# EAGLE library part NPI-STM32MP157C (library SEEED_SoM-STM32MP157C)
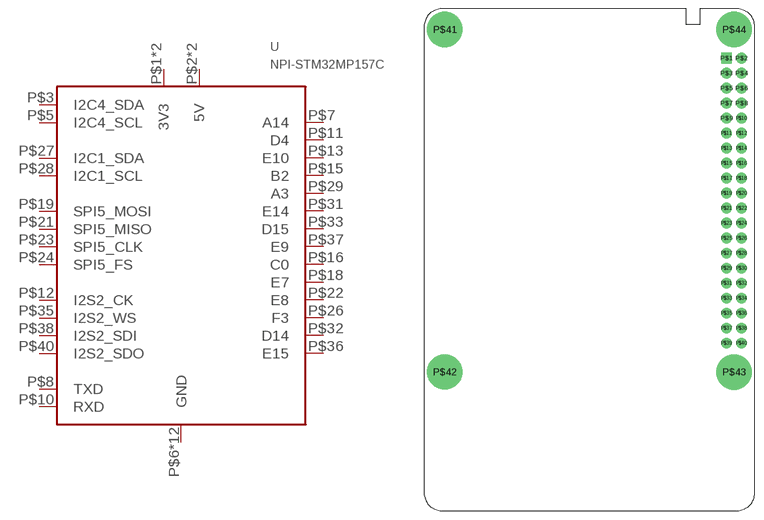
[diagram p1: symbol with the pads of NPI-STM32MP157C; footprint NPI-STM32MP157C]

Designator prefix -

## NPI-STM32MP157C  [NPI-STM32MP157C]
P$1  3V3  pwr
P$2  5V  pwr
P$3  I2C4_SDA
P$4  5V  pwr
P$5  I2C4_SCL
P$6  GND  sup
P$7  A14
P$8  TXD
P$9  GND  sup
P$10  RXD
P$11  D4
P$12  I2S2_CK
P$13  E10
P$14  GND  sup
P$15  B2
P$16  C0
P$17  3V3  pwr
P$18  E7
P$19  SPI5_MOSI
P$20  GND  sup
P$21  SPI5_MISO
P$22  E8
P$23  SPI5_CLK
P$24  SPI5_FS
P$25  GND  sup
P$26  F3
P$27  I2C1_SDA
P$28  I2C1_SCL
P$29  A3
P$30  GND  sup
P$31  E14
P$32  D14
P$33  D15
P$34  GND  sup
P$35  I2S2_WS
P$36  E15
P$37  E9
P$38  I2S2_SDI
P$39  GND  sup
P$40  I2S2_SDO
P$41  GND  sup
P$42  GND  sup
P$43  GND  sup
P$44  GND  sup

## Footprint NPI-STM32MP157C (pad centres in mm)
drill 1.2 square: P$1 51.232,76.65
drill 1.2: P$2 53.772,76.65; P$3 51.232,74.11; P$4 53.772,74.11; P$5 51.232,71.57; P$6 53.772,71.57; P$7 51.232,69.03; P$8 53.772,69.03; P$9 51.232,66.49; P$10 53.772,66.49; P$11 51.232,63.95; P$12 53.772,63.95; P$13 51.232,61.41; P$14 53.772,61.41; P$15 51.232,58.87; P$16 53.772,58.87; P$17 51.232,56.33; P$18 53.772,56.33; P$19 51.232,53.79; P$20 53.772,53.79; P$21 51.232,51.25; P$22 53.772,51.25; P$23 51.232,48.71; P$24 53.772,48.71; P$25 51.232,46.17; P$26 53.772,46.17; P$27 51.232,43.63; P$28 53.772,43.63; P$29 51.232,41.09; P$30 53.772,41.09; P$31 51.232,38.55; P$32 53.772,38.55; P$33 51.232,36.01; P$34 53.772,36.01; P$35 51.232,33.47; P$36 53.772,33.47; P$37 51.232,30.93; P$38 53.772,30.93; P$39 51.232,28.39; P$40 53.772,28.39
drill 3.2 pad 6: P$41 3.515,81.498; P$42 3.492,23.501; P$43 52.497,23.494; P$44 52.487,81.506